# Altium integrated library TUSB320IRWBR.IntLib: 1 symbol
Pins are listed as number, name and electrical type; pins without a type are passive.

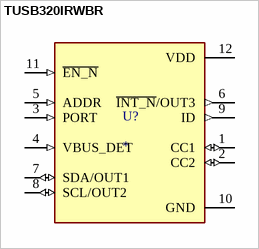
[diagram p0: symbol TUSB320IRWBR]

## TUSB320IRWBR
designator U?
USB Type-C configuration channel logic and port control; MF: Texas Instruments; MP: TUSB320IRWBR; SnapEDA_Link: https://www.snapeda.com/parts/TUSB320IRWBR/Texas+Instruments/view-part/?ref=snap; Package: X2QFN-12 Texas Instruments; Value: *; Check_prices: https://www.snapeda.com/parts/TUSB320IRWBR/Texas+Instruments/view-part/?ref=eda
footprint IC_TUSB320IRWBR
pins: 1 CC1 (io), 2 CC2 (io), 3 PORT (in), 4 VBUS_DET (in), 5 ADDR (in), 6 ~{INT_N}/OUT3 (out), 7 SDA/OUT1 (io), 8 SCL/OUT2 (io), 9 ID (out), 10 GND (power), 11 ~{EN_N} (in), 12 VDD (power)